# Altium integrated library Altium_WE-MAIA (rev24b).IntLib: 166 symbols (part 3 of 4)
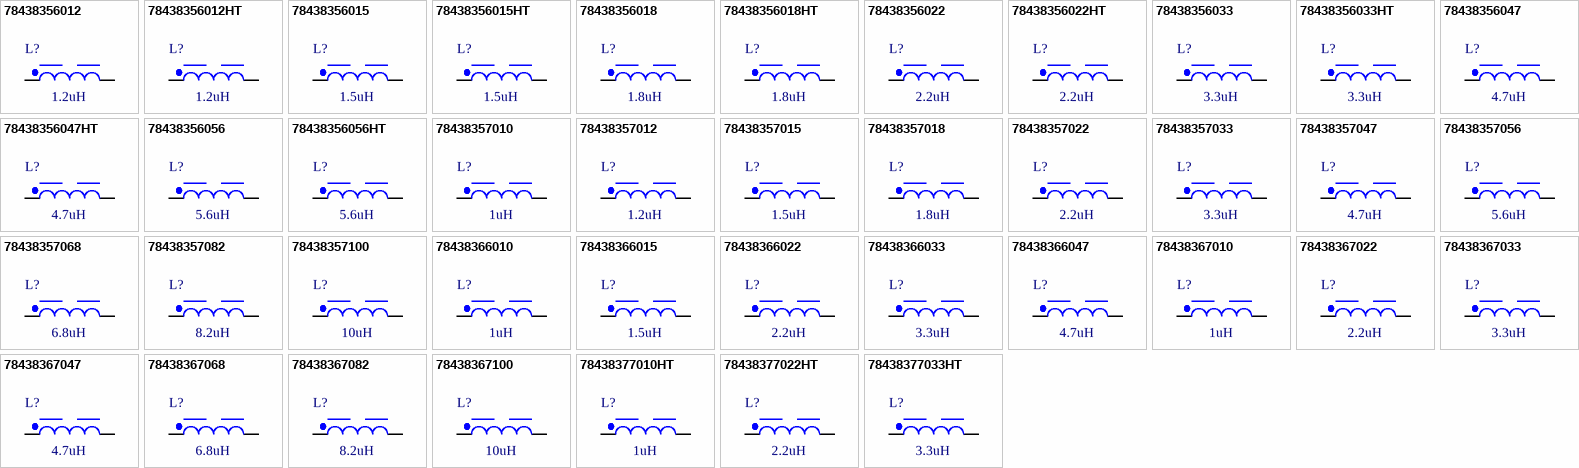
[diagram p6: symbols 78438356012 to 78438377033HT]

## 78438367010
designator L?, comment 1uH
WE-MAIA SMT Power Inductor, size 5030, 1uH, 11.85A, 11.5mOhm; Manufacturer Part Number: 78438367010; Manufacturer: Wurth Elektronik; Case/Size Code: 5030; Saturation Current @ 10%: 5.95A; Saturation Current @ 30%: 13.1A; Self Resonant Frequency: 44.5MHz; Category: Power Inductors; Match Code: WE-MAIA; ComponentLink1Description: Website Link; ComponentLink1URL: https://www.we-online.com/redexpert/article/78438367010?ad; ComponentLink2Description: Datasheet Link; ComponentLink2URL: https://www.we-online.com/redexpert/spec/78438367010?ad; Mount: Surface Mount; Operating Temperature Max: 125°C; Operating Temperature Min: -40°C; Packaging: Tape and Reel; Length: 5.4mm; Width: 5.4mm; Height: 3.1mm; Automotive: Yes; DC Resistance Max: 11.5mOhm; Inductance: 1uH; Rated Current: 11.85A
footprint WE-MAIA_5030
simulation model 5030_78438367010_1u
pins: 1, 2

## 78438367022
designator L?, comment 2.2uH
WE-MAIA SMT Power Inductor, size 5030, 2.2uH, 9.8A, 16.1mOhm; Manufacturer Part Number: 78438367022; Manufacturer: Wurth Elektronik; Case/Size Code: 5030; Saturation Current @ 10%: 4.55A; Saturation Current @ 30%: 10.2A; Self Resonant Frequency: 28MHz; Category: Power Inductors; Match Code: WE-MAIA; ComponentLink1Description: Website Link; ComponentLink1URL: https://www.we-online.com/redexpert/article/78438367022?ad; ComponentLink2Description: Datasheet Link; ComponentLink2URL: https://www.we-online.com/redexpert/spec/78438367022?ad; Mount: Surface Mount; Operating Temperature Max: 125°C; Operating Temperature Min: -40°C; Packaging: Tape and Reel; Length: 5.4mm; Width: 5.4mm; Height: 3.1mm; Automotive: Yes; DC Resistance Max: 16.1mOhm; Inductance: 2.2uH; Rated Current: 9.8A
footprint WE-MAIA_5030
simulation model 5030_78438367022_2.2u
pins: 1, 2

## 78438367033
designator L?, comment 3.3uH
WE-MAIA SMT Power Inductor, size 5030, 3.3uH, 8A, 23mOhm; Manufacturer Part Number: 78438367033; Manufacturer: Wurth Elektronik; Case/Size Code: 5030; Saturation Current @ 10%: 4.35A; Saturation Current @ 30%: 10A; Self Resonant Frequency: 22MHz; Category: Power Inductors; Match Code: WE-MAIA; ComponentLink1Description: Website Link; ComponentLink1URL: https://www.we-online.com/redexpert/article/78438367033?ad; ComponentLink2Description: Datasheet Link; ComponentLink2URL: https://www.we-online.com/redexpert/spec/78438367033?ad; Mount: Surface Mount; Operating Temperature Max: 125°C; Operating Temperature Min: -40°C; Packaging: Tape and Reel; Length: 5.4mm; Width: 5.4mm; Height: 3.1mm; Automotive: Yes; DC Resistance Max: 23mOhm; Inductance: 3.3uH; Rated Current: 8A
footprint WE-MAIA_5030
simulation model 5030_78438367033_3.3u
pins: 1, 2

## 78438367047
designator L?, comment 4.7uH
WE-MAIA SMT Power Inductor, size 5030, 4.7uH, 6.45A, 34.5mOhm; Manufacturer Part Number: 78438367047; Manufacturer: Wurth Elektronik; Case/Size Code: 5030; Saturation Current @ 10%: 3.35A; Saturation Current @ 30%: 6.5A; Self Resonant Frequency: 18.5MHz; Category: Power Inductors; Match Code: WE-MAIA; ComponentLink1Description: Website Link; ComponentLink1URL: https://www.we-online.com/redexpert/article/78438367047?ad; ComponentLink2Description: Datasheet Link; ComponentLink2URL: https://www.we-online.com/redexpert/spec/78438367047?ad; Mount: Surface Mount; Operating Temperature Max: 125°C; Operating Temperature Min: -40°C; Packaging: Tape and Reel; Length: 5.4mm; Width: 5.4mm; Height: 3.1mm; Automotive: Yes; DC Resistance Max: 34.5mOhm; Inductance: 4.7uH; Rated Current: 6.45A
footprint WE-MAIA_5030
simulation model 5030_78438367047_4.7u
pins: 1, 2

## 78438367068
designator L?, comment 6.8uH
WE-MAIA SMT Power Inductor, size 5030, 6.8uH, 5.3A, 48.3mOhm; Manufacturer Part Number: 78438367068; Manufacturer: Wurth Elektronik; Case/Size Code: 5030; Saturation Current @ 10%: 3.7A; Saturation Current @ 30%: 7.7A; Self Resonant Frequency: 15.5MHz; Category: Power Inductors; Match Code: WE-MAIA; ComponentLink1Description: Website Link; ComponentLink1URL: https://www.we-online.com/redexpert/article/78438367068?ad; ComponentLink2Description: Datasheet Link; ComponentLink2URL: https://www.we-online.com/redexpert/spec/78438367068?ad; Mount: Surface Mount; Operating Temperature Max: 125°C; Operating Temperature Min: -40°C; Packaging: Tape and Reel; Length: 5.4mm; Width: 5.4mm; Height: 3.1mm; Automotive: Yes; DC Resistance Max: 48.3mOhm; Inductance: 6.8uH; Rated Current: 5.3A
footprint WE-MAIA_5030
simulation model 5030_78438367068_6.8u
pins: 1, 2

## 78438367082
designator L?, comment 8.2uH
WE-MAIA SMT Power Inductor, size 5030, 8.2uH, 4.85A, 57.5mOhm; Manufacturer Part Number: 78438367082; Manufacturer: Wurth Elektronik; Case/Size Code: 5030; Saturation Current @ 10%: 3.25A; Saturation Current @ 30%: 6.6A; Self Resonant Frequency: 13MHz; Category: Power Inductors; Match Code: WE-MAIA; ComponentLink1Description: Website Link; ComponentLink1URL: https://www.we-online.com/redexpert/article/78438367082?ad; ComponentLink2Description: Datasheet Link; ComponentLink2URL: https://www.we-online.com/redexpert/spec/78438367082?ad; Mount: Surface Mount; Operating Temperature Max: 125°C; Operating Temperature Min: -40°C; Packaging: Tape and Reel; Length: 5.4mm; Width: 5.4mm; Height: 3.1mm; Automotive: Yes; DC Resistance Max: 57.5mOhm; Inductance: 8.2uH; Rated Current: 4.85A
footprint WE-MAIA_5030
simulation model 5030_78438367082_8.2u
pins: 1, 2

## 78438367100
designator L?, comment 10uH
WE-MAIA SMT Power Inductor, size 5030, 10uH, 4.3A, 70.2mOhm; Manufacturer Part Number: 78438367100; Manufacturer: Wurth Elektronik; Case/Size Code: 5030; Saturation Current @ 10%: 3.25A; Saturation Current @ 30%: 6.6A; Self Resonant Frequency: 13MHz; Category: Power Inductors; Match Code: WE-MAIA; ComponentLink1Description: Website Link; ComponentLink1URL: https://www.we-online.com/redexpert/article/78438367100?ad; ComponentLink2Description: Datasheet Link; ComponentLink2URL: https://www.we-online.com/redexpert/spec/78438367100?ad; Mount: Surface Mount; Operating Temperature Max: 125°C; Operating Temperature Min: -40°C; Packaging: Tape and Reel; Length: 5.4mm; Width: 5.4mm; Height: 3.1mm; Automotive: Yes; DC Resistance Max: 70.2mOhm; Inductance: 10uH; Rated Current: 4.3A
footprint WE-MAIA_5030
simulation model 5030_78438367100_10u
pins: 1, 2

## 78438377010HT
designator L?, comment 1uH
WE-MAIA SMT Power Inductor, size 6030HT, 1uH, 15.2A, 6.9mOhm; Manufacturer Part Number: 78438377010HT; Manufacturer: Wurth Elektronik; Saturation Current @ 10%: 8.7A; Saturation Current @ 30%: 18A; Self Resonant Frequency: 47MHz; Category: Power Inductors; Match Code: WE-MAIA; ComponentLink1Description: Website Link; ComponentLink1URL: https://www.we-online.com/redexpert/article/78438377010HT?ad; ComponentLink2Description: Datasheet Link; ComponentLink2URL: https://www.we-online.com/redexpert/spec/78438377010HT?ad; Mount: Surface Mount; Operating Temperature Max: 150°C; Operating Temperature Min: -55°C; Packaging: Tape and Reel; Case/Size Code: 6030HT; Length: 6.6mm; Width: 6.6mm; Height: 3.1mm; Automotive: Yes; DC Resistance Max: 6.9mOhm; Inductance: 1uH; Rated Current: 15.2A
footprint WE-MAIA_6030HT
simulation model 6030HT_78438377010HT_1u
pins: 1, 2

## 78438377022HT
designator L?, comment 2.2uH
WE-MAIA SMT Power Inductor, size 6030HT, 2.2uH, 11.4A, 13.7mOhm; Manufacturer Part Number: 78438377022HT; Manufacturer: Wurth Elektronik; Saturation Current @ 10%: 6.3A; Saturation Current @ 30%: 12.8A; Self Resonant Frequency: 28MHz; Category: Power Inductors; Match Code: WE-MAIA; ComponentLink1Description: Website Link; ComponentLink1URL: https://www.we-online.com/redexpert/article/78438377022HT?ad; ComponentLink2Description: Datasheet Link; ComponentLink2URL: https://www.we-online.com/redexpert/spec/78438377022HT?ad; Mount: Surface Mount; Operating Temperature Max: 150°C; Operating Temperature Min: -55°C; Packaging: Tape and Reel; Case/Size Code: 6030HT; Length: 6.6mm; Width: 6.6mm; Height: 3.1mm; Automotive: Yes; DC Resistance Max: 13.7mOhm; Inductance: 2.2uH; Rated Current: 11.4A
footprint WE-MAIA_6030HT
simulation model 6030HT_78438377022HT_2.2u
pins: 1, 2

## 78438377033HT
designator L?, comment 3.3uH
WE-MAIA SMT Power Inductor, size 6030HT, 3.3uH, 9.6A, 20.4mOhm; Manufacturer Part Number: 78438377033HT; Manufacturer: Wurth Elektronik; Saturation Current @ 10%: 5.2A; Saturation Current @ 30%: 11.2A; Self Resonant Frequency: 22MHz; Category: Power Inductors; Match Code: WE-MAIA; ComponentLink1Description: Website Link; ComponentLink1URL: https://www.we-online.com/redexpert/article/78438377033HT?ad; ComponentLink2Description: Datasheet Link; ComponentLink2URL: https://www.we-online.com/redexpert/spec/78438377033HT?ad; Mount: Surface Mount; Operating Temperature Max: 150°C; Operating Temperature Min: -55°C; Packaging: Tape and Reel; Case/Size Code: 6030HT; Length: 6.6mm; Width: 6.6mm; Height: 3.1mm; Automotive: Yes; DC Resistance Max: 20.4mOhm; Inductance: 3.3uH; Rated Current: 9.6A
footprint WE-MAIA_6030HT
simulation model 6030HT_78438377033HT_3.3u
pins: 1, 2

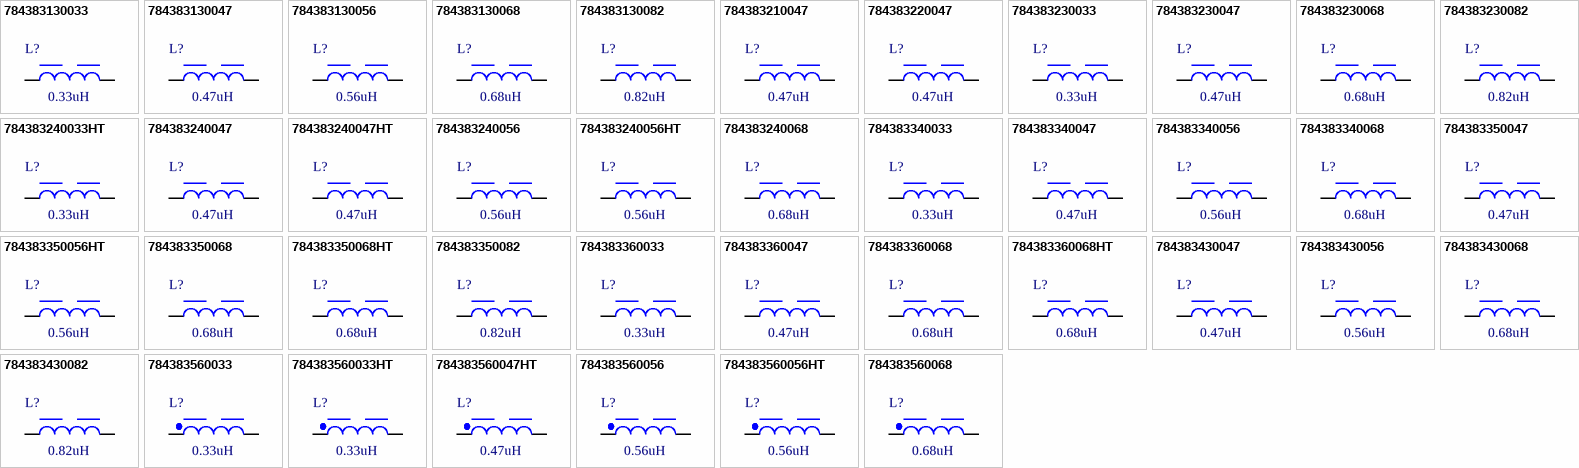
[diagram p3: symbols 784383130033 to 784383560068]

## 784383130033
designator L?, comment 0.33uH
WE-MAIA SMT Power Inductor, size 1610, 0.33uH, 3.25A, 84mOhm; Manufacturer Part Number: 784383130033; Manufacturer: Wurth Elektronik; Case/Size Code: 1610; Saturation Current @ 10%: 3.35A; Saturation Current @ 30%: 6.2A; Self Resonant Frequency: 215MHz; Category: Power Inductors; Match Code: WE-MAIA; ComponentLink1Description: Website Link; ComponentLink1URL: https://www.we-online.com/redexpert/article/784383130033?ad; ComponentLink2Description: Datasheet Link; ComponentLink2URL: https://www.we-online.com/redexpert/spec/784383130033?ad; Mount: Surface Mount; Operating Temperature Max: 125°C; Operating Temperature Min: -40°C; Packaging: Tape and Reel; Length: 1.6mm; Width: 1.6mm; Height: 1mm; Automotive: Yes; DC Resistance Max: 84mOhm; Inductance: 0.33uH; Rated Current: 3.25A
footprint WE-MAIA_1610
simulation model 1610_784383130033_0.33u
pins: 1, 2

## 784383130047
designator L?, comment 0.47uH
WE-MAIA SMT Power Inductor, size 1610, 0.47uH, 2.95A, 101mOhm; Manufacturer Part Number: 784383130047; Manufacturer: Wurth Elektronik; Case/Size Code: 1610; Saturation Current @ 10%: 3.05A; Saturation Current @ 30%: 5.6A; Self Resonant Frequency: 200MHz; Category: Power Inductors; Match Code: WE-MAIA; ComponentLink1Description: Website Link; ComponentLink1URL: https://www.we-online.com/redexpert/article/784383130047?ad; ComponentLink2Description: Datasheet Link; ComponentLink2URL: https://www.we-online.com/redexpert/spec/784383130047?ad; Mount: Surface Mount; Operating Temperature Max: 125°C; Operating Temperature Min: -40°C; Packaging: Tape and Reel; Length: 1.6mm; Width: 1.6mm; Height: 1mm; Automotive: Yes; DC Resistance Max: 101mOhm; Inductance: 0.47uH; Rated Current: 2.95A
footprint WE-MAIA_1610
simulation model 1610_784383130047_0.47u
pins: 1, 2

## 784383130056
designator L?, comment 0.56uH
WE-MAIA SMT Power Inductor, size 1610, 0.56uH, 2.7A, 113mOhm; Manufacturer Part Number: 784383130056; Manufacturer: Wurth Elektronik; Case/Size Code: 1610; Saturation Current @ 10%: 2.75A; Saturation Current @ 30%: 5.2A; Self Resonant Frequency: 150MHz; Category: Power Inductors; Match Code: WE-MAIA; ComponentLink1Description: Website Link; ComponentLink1URL: https://www.we-online.com/redexpert/article/784383130056?ad; ComponentLink2Description: Datasheet Link; ComponentLink2URL: https://www.we-online.com/redexpert/spec/784383130056?ad; Mount: Surface Mount; Operating Temperature Max: 125°C; Operating Temperature Min: -40°C; Packaging: Tape and Reel; Length: 1.6mm; Width: 1.6mm; Height: 1mm; Automotive: Yes; DC Resistance Max: 113mOhm; Inductance: 0.56uH; Rated Current: 2.7A
footprint WE-MAIA_1610
simulation model 1610_784383130056_0.56u
pins: 1, 2

## 784383130068
designator L?, comment 0.68uH
WE-MAIA SMT Power Inductor, size 1610, 0.68uH, 2.55A, 126mOhm; Manufacturer Part Number: 784383130068; Manufacturer: Wurth Elektronik; Case/Size Code: 1610; Saturation Current @ 30%: 4.8A; Self Resonant Frequency: 135MHz; Category: Power Inductors; Match Code: WE-MAIA; ComponentLink1Description: Website Link; ComponentLink1URL: https://www.we-online.com/redexpert/article/784383130068?ad; ComponentLink2Description: Datasheet Link; ComponentLink2URL: https://www.we-online.com/redexpert/spec/784383130068?ad; Mount: Surface Mount; Operating Temperature Max: 125°C; Operating Temperature Min: -40°C; Packaging: Tape and Reel; Length: 1.6mm; Width: 1.6mm; Height: 1mm; Automotive: Yes; DC Resistance Max: 126mOhm; Inductance: 0.68uH; Rated Current: 2.55A; Saturation Current @ 10%: 2.55A
footprint WE-MAIA_1610
simulation model 1610_784383130068_0.68u
pins: 1, 2

## 784383130082
designator L?, comment 0.82uH
WE-MAIA SMT Power Inductor, size 1610, 0.82uH, 2.35A, 144mOhm; Manufacturer Part Number: 784383130082; Manufacturer: Wurth Elektronik; Case/Size Code: 1610; Saturation Current @ 10%: 2.5A; Saturation Current @ 30%: 4.6A; Self Resonant Frequency: 115MHz; Category: Power Inductors; Match Code: WE-MAIA; ComponentLink1Description: Website Link; ComponentLink1URL: https://www.we-online.com/redexpert/article/784383130082?ad; ComponentLink2Description: Datasheet Link; ComponentLink2URL: https://www.we-online.com/redexpert/spec/784383130082?ad; Mount: Surface Mount; Operating Temperature Max: 125°C; Operating Temperature Min: -40°C; Packaging: Tape and Reel; Length: 1.6mm; Width: 1.6mm; Height: 1mm; Automotive: Yes; DC Resistance Max: 144mOhm; Inductance: 0.82uH; Rated Current: 2.35A
footprint WE-MAIA_1610
simulation model 1610_784383130082_0.82u
pins: 1, 2

## 784383210047
designator L?, comment 0.47uH
WE-MAIA SMT Power Inductor, size 2506, 0.47uH, 3.25A, 95mOhm; Manufacturer Part Number: 784383210047; Manufacturer: Wurth Elektronik; Case/Size Code: 2506; Saturation Current @ 10%: 2.55A; Saturation Current @ 30%: 4.65A; Self Resonant Frequency: 165MHz; Category: Power Inductors; Match Code: WE-MAIA; ComponentLink1Description: Website Link; ComponentLink1URL: https://www.we-online.com/redexpert/article/784383210047?ad; ComponentLink2Description: Datasheet Link; ComponentLink2URL: https://www.we-online.com/redexpert/spec/784383210047?ad; Mount: Surface Mount; Operating Temperature Max: 125°C; Operating Temperature Min: -40°C; Packaging: Tape and Reel; Length: 2.5mm; Width: 2mm; Height: 0.6mm; Automotive: Yes; DC Resistance Max: 95mOhm; Inductance: 0.47uH; Rated Current: 3.25A
footprint WE-MAIA_2506
simulation model 2506_784383210047_0.47u
pins: 1, 2

## 784383220047
designator L?, comment 0.47uH
WE-MAIA SMT Power Inductor, size 2508, 0.47uH, 3.35A, 87mOhm; Manufacturer Part Number: 784383220047; Manufacturer: Wurth Elektronik; Case/Size Code: 2508; Saturation Current @ 10%: 2.85A; Saturation Current @ 30%: 5.65A; Self Resonant Frequency: 160MHz; Category: Power Inductors; Match Code: WE-MAIA; ComponentLink1Description: Website Link; ComponentLink1URL: https://www.we-online.com/redexpert/article/784383220047?ad; ComponentLink2Description: Datasheet Link; ComponentLink2URL: https://www.we-online.com/redexpert/spec/784383220047?ad; Mount: Surface Mount; Operating Temperature Max: 125°C; Operating Temperature Min: -40°C; Packaging: Tape and Reel; Length: 2.5mm; Width: 2mm; Height: 0.8mm; Automotive: Yes; DC Resistance Max: 87mOhm; Inductance: 0.47uH; Rated Current: 3.35A
footprint WE-MAIA_2508
simulation model 2508_784383220047_0.47u
pins: 1, 2

## 784383230033
designator L?, comment 0.33uH
WE-MAIA SMT Power Inductor, size 2510, 0.33uH, 5.5A, 38mOhm; Manufacturer Part Number: 784383230033; Manufacturer: Wurth Elektronik; Case/Size Code: 2510; Saturation Current @ 10%: 4.25A; Saturation Current @ 30%: 8A; Self Resonant Frequency: 180MHz; Category: Power Inductors; Match Code: WE-MAIA; ComponentLink1Description: Website Link; ComponentLink1URL: https://www.we-online.com/redexpert/article/784383230033?ad; ComponentLink2Description: Datasheet Link; ComponentLink2URL: https://www.we-online.com/redexpert/spec/784383230033?ad; Mount: Surface Mount; Operating Temperature Max: 125°C; Operating Temperature Min: -40°C; Packaging: Tape and Reel; Length: 2.5mm; Width: 2mm; Height: 1mm; Automotive: Yes; DC Resistance Max: 38mOhm; Inductance: 0.33uH; Rated Current: 5.5A
footprint WE-MAIA_2510
simulation model 2510_784383230033_0.33u
pins: 1, 2

## 784383230047
designator L?, comment 0.47uH
WE-MAIA SMT Power Inductor, size 2510, 0.47uH, 4.8A, 48mOhm; Manufacturer Part Number: 784383230047; Manufacturer: Wurth Elektronik; Case/Size Code: 2510; Saturation Current @ 10%: 3.6A; Saturation Current @ 30%: 6.9A; Self Resonant Frequency: 170MHz; Category: Power Inductors; Match Code: WE-MAIA; ComponentLink1Description: Website Link; ComponentLink1URL: https://www.we-online.com/redexpert/article/784383230047?ad; ComponentLink2Description: Datasheet Link; ComponentLink2URL: https://www.we-online.com/redexpert/spec/784383230047?ad; Mount: Surface Mount; Operating Temperature Max: 125°C; Operating Temperature Min: -40°C; Packaging: Tape and Reel; Length: 2.5mm; Width: 2mm; Height: 1mm; Automotive: Yes; DC Resistance Max: 48mOhm; Inductance: 0.47uH; Rated Current: 4.8A
footprint WE-MAIA_2510
simulation model 2510_784383230047_0.47u
pins: 1, 2

## 784383230068
designator L?, comment 0.68uH
WE-MAIA SMT Power Inductor, size 2510, 0.68uH, 4.25A, 60mOhm; Manufacturer Part Number: 784383230068; Manufacturer: Wurth Elektronik; Case/Size Code: 2510; Saturation Current @ 10%: 3.1A; Saturation Current @ 30%: 6.1A; Self Resonant Frequency: 135MHz; Category: Power Inductors; Match Code: WE-MAIA; ComponentLink1Description: Website Link; ComponentLink1URL: https://www.we-online.com/redexpert/article/784383230068?ad; ComponentLink2Description: Datasheet Link; ComponentLink2URL: https://www.we-online.com/redexpert/spec/784383230068?ad; Mount: Surface Mount; Operating Temperature Max: 125°C; Operating Temperature Min: -40°C; Packaging: Tape and Reel; Length: 2.5mm; Width: 2mm; Height: 1mm; Automotive: Yes; DC Resistance Max: 60mOhm; Inductance: 0.68uH; Rated Current: 4.25A
footprint WE-MAIA_2510
simulation model 2510_784383230068_0.68u
pins: 1, 2

## 784383230082
designator L?, comment 0.82uH
WE-MAIA SMT Power Inductor, size 2510, 0.82uH, 3.9A, 69mOhm; Manufacturer Part Number: 784383230082; Manufacturer: Wurth Elektronik; Case/Size Code: 2510; Saturation Current @ 10%: 2.7A; Saturation Current @ 30%: 5.45A; Self Resonant Frequency: 105MHz; Category: Power Inductors; Match Code: WE-MAIA; ComponentLink1Description: Website Link; ComponentLink1URL: https://www.we-online.com/redexpert/article/784383230082?ad; ComponentLink2Description: Datasheet Link; ComponentLink2URL: https://www.we-online.com/redexpert/spec/784383230082?ad; Mount: Surface Mount; Operating Temperature Max: 125°C; Operating Temperature Min: -40°C; Packaging: Tape and Reel; Length: 2.5mm; Width: 2mm; Height: 1mm; Automotive: Yes; DC Resistance Max: 69mOhm; Inductance: 0.82uH; Rated Current: 3.9A
footprint WE-MAIA_2510
simulation model 2510_784383230082_0.82u
pins: 1, 2

## 784383240033HT
designator L?, comment 0.33uH
WE-MAIA SMT Power Inductor, size 2512HT, 0.33uH, 6.2A, 26.7mOhm; Manufacturer Part Number: 784383240033HT; Manufacturer: Wurth Elektronik; Saturation Current @ 10%: 4.1A; Saturation Current @ 30%: 8.6A; Self Resonant Frequency: 174MHz; Category: Power Inductors; Match Code: WE-MAIA; ComponentLink1Description: Website Link; ComponentLink1URL: https://www.we-online.com/redexpert/article/784383240033HT?ad; ComponentLink2Description: Datasheet Link; ComponentLink2URL: https://www.we-online.com/redexpert/spec/784383240033HT?ad; Mount: Surface Mount; Operating Temperature Max: 150°C; Operating Temperature Min: -55°C; Packaging: Tape and Reel; Case/Size Code: 2512HT; Length: 2.5mm; Width: 2mm; Height: 1.2mm; Automotive: Yes; DC Resistance Max: 26.7mOhm; Inductance: 0.33uH; Rated Current: 6.2A
footprint WE-MAIA_2512HT
simulation model 2512HT_784383240033HT_0.33u
pins: 1, 2

## 784383240047
designator L?, comment 0.47uH
WE-MAIA SMT Power Inductor, size 2512, 0.47uH, 5.35A, 40mOhm; Manufacturer Part Number: 784383240047; Manufacturer: Wurth Elektronik; Case/Size Code: 2512; Saturation Current @ 10%: 4.15A; Saturation Current @ 30%: 8A; Self Resonant Frequency: 145MHz; Category: Power Inductors; Match Code: WE-MAIA; ComponentLink1Description: Website Link; ComponentLink1URL: https://www.we-online.com/redexpert/article/784383240047?ad; ComponentLink2Description: Datasheet Link; ComponentLink2URL: https://www.we-online.com/redexpert/spec/784383240047?ad; Mount: Surface Mount; Operating Temperature Max: 125°C; Operating Temperature Min: -40°C; Packaging: Tape and Reel; Length: 2.5mm; Width: 2mm; Height: 1.2mm; Automotive: Yes; DC Resistance Max: 40mOhm; Inductance: 0.47uH; Rated Current: 5.35A
footprint WE-MAIA_2512
simulation model 2512_784383240047_0.47u
pins: 1, 2

## 784383240047HT
designator L?, comment 0.47uH
WE-MAIA SMT Power Inductor, size 2512HT, 0.47uH, 5.3A, 34.7mOhm; Manufacturer Part Number: 784383240047HT; Manufacturer: Wurth Elektronik; Saturation Current @ 10%: 3.6A; Saturation Current @ 30%: 7.5A; Self Resonant Frequency: 131MHz; Category: Power Inductors; Match Code: WE-MAIA; ComponentLink1Description: Website Link; ComponentLink1URL: https://www.we-online.com/redexpert/article/784383240047HT?ad; ComponentLink2Description: Datasheet Link; ComponentLink2URL: https://www.we-online.com/redexpert/spec/784383240047HT?ad; Mount: Surface Mount; Operating Temperature Max: 150°C; Operating Temperature Min: -55°C; Packaging: Tape and Reel; Case/Size Code: 2512HT; Length: 2.5mm; Width: 2mm; Height: 1.2mm; Automotive: Yes; DC Resistance Max: 34.7mOhm; Inductance: 0.47uH; Rated Current: 5.3A
footprint WE-MAIA_2512HT
simulation model 2512HT_784383240047HT_0.47u
pins: 1, 2

## 784383240056
designator L?, comment 0.56uH
WE-MAIA SMT Power Inductor, size 2512, 0.56uH, 4.75A, 49mOhm; Manufacturer Part Number: 784383240056; Manufacturer: Wurth Elektronik; Case/Size Code: 2512; Saturation Current @ 10%: 4.25A; Saturation Current @ 30%: 7.9A; Self Resonant Frequency: 120MHz; Category: Power Inductors; Match Code: WE-MAIA; ComponentLink1Description: Website Link; ComponentLink1URL: https://www.we-online.com/redexpert/article/784383240056?ad; ComponentLink2Description: Datasheet Link; ComponentLink2URL: https://www.we-online.com/redexpert/spec/784383240056?ad; Mount: Surface Mount; Operating Temperature Max: 125°C; Operating Temperature Min: -40°C; Packaging: Tape and Reel; Length: 2.5mm; Width: 2mm; Height: 1.2mm; Automotive: Yes; DC Resistance Max: 49mOhm; Inductance: 0.56uH; Rated Current: 4.75A
footprint WE-MAIA_2512
simulation model 2512_784383240056_0.56u
pins: 1, 2

## 784383240056HT
designator L?, comment 0.56uH
WE-MAIA SMT Power Inductor, size 2512HT, 0.56uH, 4.7A, 44.1mOhm; Manufacturer Part Number: 784383240056HT; Manufacturer: Wurth Elektronik; Saturation Current @ 10%: 3.2A; Saturation Current @ 30%: 6.7A; Self Resonant Frequency: 102MHz; Category: Power Inductors; Match Code: WE-MAIA; ComponentLink1Description: Website Link; ComponentLink1URL: https://www.we-online.com/redexpert/article/784383240056HT?ad; ComponentLink2Description: Datasheet Link; ComponentLink2URL: https://www.we-online.com/redexpert/spec/784383240056HT?ad; Mount: Surface Mount; Operating Temperature Max: 150°C; Operating Temperature Min: -55°C; Packaging: Tape and Reel; Case/Size Code: 2512HT; Length: 2.5mm; Width: 2mm; Height: 1.2mm; Automotive: Yes; DC Resistance Max: 44.1mOhm; Inductance: 0.56uH; Rated Current: 4.7A
footprint WE-MAIA_2512HT
simulation model 2512HT_784383240056HT_0.56u
pins: 1, 2

## 784383240068
designator L?, comment 0.68uH
WE-MAIA SMT Power Inductor, size 2512, 0.68uH, 4.25A, 59mOhm; Manufacturer Part Number: 784383240068; Manufacturer: Wurth Elektronik; Case/Size Code: 2512; Saturation Current @ 10%: 3.8A; Saturation Current @ 30%: 7.4A; Self Resonant Frequency: 102MHz; Category: Power Inductors; Match Code: WE-MAIA; ComponentLink1Description: Website Link; ComponentLink1URL: https://www.we-online.com/redexpert/article/784383240068?ad; ComponentLink2Description: Datasheet Link; ComponentLink2URL: https://www.we-online.com/redexpert/spec/784383240068?ad; Mount: Surface Mount; Operating Temperature Max: 125°C; Operating Temperature Min: -40°C; Packaging: Tape and Reel; Length: 2.5mm; Width: 2mm; Height: 1.2mm; Automotive: Yes; DC Resistance Max: 59mOhm; Inductance: 0.68uH; Rated Current: 4.25A
footprint WE-MAIA_2512
simulation model 2512_784383240068_0.68u
pins: 1, 2

## 784383340033
designator L?, comment 0.33uH
WE-MAIA SMT Power Inductor, size 3012, 0.33uH, 7.4A, 22.8mOhm; Manufacturer Part Number: 784383340033; Manufacturer: Wurth Elektronik; Case/Size Code: 3012; Saturation Current @ 10%: 8.1A; Saturation Current @ 30%: 13.3A; Self Resonant Frequency: 140MHz; Category: Power Inductors; Match Code: WE-MAIA; ComponentLink1Description: Website Link; ComponentLink1URL: https://www.we-online.com/redexpert/article/784383340033?ad; ComponentLink2Description: Datasheet Link; ComponentLink2URL: https://www.we-online.com/redexpert/spec/784383340033?ad; Mount: Surface Mount; Operating Temperature Max: 125°C; Operating Temperature Min: -40°C; Packaging: Tape and Reel; Length: 3mm; Width: 3mm; Height: 1.2mm; Automotive: Yes; DC Resistance Max: 22.8mOhm; Inductance: 0.33uH; Rated Current: 7.4A
footprint WE-MAIA_3012
simulation model 3012_784383340033_0.33u
pins: 1, 2

## 784383340047
designator L?, comment 0.47uH
WE-MAIA SMT Power Inductor, size 3012, 0.47uH, 6.8A, 26.4mOhm; Manufacturer Part Number: 784383340047; Manufacturer: Wurth Elektronik; Case/Size Code: 3012; Saturation Current @ 10%: 5.95A; Saturation Current @ 30%: 12.3A; Self Resonant Frequency: 110MHz; Category: Power Inductors; Match Code: WE-MAIA; ComponentLink1Description: Website Link; ComponentLink1URL: https://www.we-online.com/redexpert/article/784383340047?ad; ComponentLink2Description: Datasheet Link; ComponentLink2URL: https://www.we-online.com/redexpert/spec/784383340047?ad; Mount: Surface Mount; Operating Temperature Max: 125°C; Operating Temperature Min: -40°C; Packaging: Tape and Reel; Length: 3mm; Width: 3mm; Height: 1.2mm; Automotive: Yes; DC Resistance Max: 26.4mOhm; Inductance: 0.47uH; Rated Current: 6.8A
footprint WE-MAIA_3012
simulation model 3012_784383340047_0.47u
pins: 1, 2

## 784383340056
designator L?, comment 0.56uH
WE-MAIA SMT Power Inductor, size 3012, 0.56uH, 5.8A, 34.8mOhm; Manufacturer Part Number: 784383340056; Manufacturer: Wurth Elektronik; Case/Size Code: 3012; Saturation Current @ 10%: 5.65A; Saturation Current @ 30%: 11.1A; Self Resonant Frequency: 108MHz; Category: Power Inductors; Match Code: WE-MAIA; ComponentLink1Description: Website Link; ComponentLink1URL: https://www.we-online.com/redexpert/article/784383340056?ad; ComponentLink2Description: Datasheet Link; ComponentLink2URL: https://www.we-online.com/redexpert/spec/784383340056?ad; Mount: Surface Mount; Operating Temperature Max: 125°C; Operating Temperature Min: -40°C; Packaging: Tape and Reel; Length: 3mm; Width: 3mm; Height: 1.2mm; Automotive: Yes; DC Resistance Max: 34.8mOhm; Inductance: 0.56uH; Rated Current: 5.8A
footprint WE-MAIA_3012
simulation model 3012_784383340056_0.56u
pins: 1, 2

## 784383340068
designator L?, comment 0.68uH
WE-MAIA SMT Power Inductor, size 3012, 0.68uH, 5.15A, 43.2mOhm; Manufacturer Part Number: 784383340068; Manufacturer: Wurth Elektronik; Case/Size Code: 3012; Saturation Current @ 10%: 4.95A; Saturation Current @ 30%: 10A; Self Resonant Frequency: 100MHz; Category: Power Inductors; Match Code: WE-MAIA; ComponentLink1Description: Website Link; ComponentLink1URL: https://www.we-online.com/redexpert/article/784383340068?ad; ComponentLink2Description: Datasheet Link; ComponentLink2URL: https://www.we-online.com/redexpert/spec/784383340068?ad; Mount: Surface Mount; Operating Temperature Max: 125°C; Operating Temperature Min: -40°C; Packaging: Tape and Reel; Length: 3mm; Width: 3mm; Height: 1.2mm; Automotive: Yes; DC Resistance Max: 43.2mOhm; Inductance: 0.68uH; Rated Current: 5.15A
footprint WE-MAIA_3012
simulation model 3012_784383340068_0.68u
pins: 1, 2

## 784383350047
designator L?, comment 0.47uH
WE-MAIA SMT Power Inductor, size 3015, 0.47uH, 7.1A, 23mOhm; Manufacturer Part Number: 784383350047; Manufacturer: Wurth Elektronik; Case/Size Code: 3015; Saturation Current @ 10%: 4.35A; Saturation Current @ 30%: 7.4A; Self Resonant Frequency: 105MHz; Category: Power Inductors; Match Code: WE-MAIA; ComponentLink1Description: Website Link; ComponentLink1URL: https://www.we-online.com/redexpert/article/784383350047?ad; ComponentLink2Description: Datasheet Link; ComponentLink2URL: https://www.we-online.com/redexpert/spec/784383350047?ad; Mount: Surface Mount; Operating Temperature Max: 125°C; Operating Temperature Min: -40°C; Packaging: Tape and Reel; Length: 3mm; Width: 3mm; Height: 1.5mm; Automotive: Yes; DC Resistance Max: 23mOhm; Inductance: 0.47uH; Rated Current: 7.1A
footprint WE-MAIA_3015
simulation model 3015_784383350047_0.47u
pins: 1, 2

## 784383350056HT
designator L?, comment 0.56uH
WE-MAIA SMT Power Inductor, size 3015HT, 0.56uH, 7.3A, 22.2mOhm; Manufacturer Part Number: 784383350056HT; Manufacturer: Wurth Elektronik; Saturation Current @ 10%: 4A; Saturation Current @ 30%: 7.8A; Self Resonant Frequency: 93MHz; Category: Power Inductors; Match Code: WE-MAIA; ComponentLink1Description: Website Link; ComponentLink1URL: https://www.we-online.com/redexpert/article/784383350056HT?ad; ComponentLink2Description: Datasheet Link; ComponentLink2URL: https://www.we-online.com/redexpert/spec/784383350056HT?ad; Mount: Surface Mount; Operating Temperature Max: 150°C; Operating Temperature Min: -55°C; Packaging: Tape and Reel; Case/Size Code: 3015HT; Length: 3mm; Width: 3mm; Height: 1.5mm; Automotive: Yes; DC Resistance Max: 22.2mOhm; Inductance: 0.56uH; Rated Current: 7.3A
footprint WE-MAIA_3015HT
simulation model 3015HT_784383350056HT_0.56u
pins: 1, 2

## 784383350068
designator L?, comment 0.68uH
WE-MAIA SMT Power Inductor, size 3015, 0.68uH, 6.3A, 30mOhm; Manufacturer Part Number: 784383350068; Manufacturer: Wurth Elektronik; Case/Size Code: 3015; Saturation Current @ 10%: 5.8A; Saturation Current @ 30%: 9.7A; Self Resonant Frequency: 100MHz; Category: Power Inductors; Match Code: WE-MAIA; ComponentLink1Description: Website Link; ComponentLink1URL: https://www.we-online.com/redexpert/article/784383350068?ad; ComponentLink2Description: Datasheet Link; ComponentLink2URL: https://www.we-online.com/redexpert/spec/784383350068?ad; Mount: Surface Mount; Operating Temperature Max: 125°C; Operating Temperature Min: -40°C; Packaging: Tape and Reel; Length: 3mm; Width: 3mm; Height: 1.5mm; Automotive: Yes; DC Resistance Max: 30mOhm; Inductance: 0.68uH; Rated Current: 6.3A
footprint WE-MAIA_3015
simulation model 3015_784383350068_0.68u
pins: 1, 2

## 784383350068HT
designator L?, comment 0.68uH
WE-MAIA SMT Power Inductor, size 3015HT, 0.68uH, 6.8A, 25.5mOhm; Manufacturer Part Number: 784383350068HT; Manufacturer: Wurth Elektronik; Saturation Current @ 10%: 3.6A; Saturation Current @ 30%: 7.4A; Self Resonant Frequency: 78MHz; Category: Power Inductors; Match Code: WE-MAIA; ComponentLink1Description: Website Link; ComponentLink1URL: https://www.we-online.com/redexpert/article/784383350068HT?ad; ComponentLink2Description: Datasheet Link; ComponentLink2URL: https://www.we-online.com/redexpert/spec/784383350068HT?ad; Mount: Surface Mount; Operating Temperature Max: 150°C; Operating Temperature Min: -55°C; Packaging: Tape and Reel; Case/Size Code: 3015HT; Length: 3mm; Width: 3mm; Height: 1.5mm; Automotive: Yes; DC Resistance Max: 25.5mOhm; Inductance: 0.68uH; Rated Current: 6.8A
footprint WE-MAIA_3015HT
simulation model 3015HT_784383350068HT_0.68u
pins: 1, 2

## 784383350082
designator L?, comment 0.82uH
WE-MAIA SMT Power Inductor, size 3015, 0.82uH, 5.7A, 35mOhm; Manufacturer Part Number: 784383350082; Manufacturer: Wurth Elektronik; Case/Size Code: 3015; Saturation Current @ 10%: 4.95A; Saturation Current @ 30%: 9A; Self Resonant Frequency: 85MHz; Category: Power Inductors; Match Code: WE-MAIA; ComponentLink1Description: Website Link; ComponentLink1URL: https://www.we-online.com/redexpert/article/784383350082?ad; ComponentLink2Description: Datasheet Link; ComponentLink2URL: https://www.we-online.com/redexpert/spec/784383350082?ad; Mount: Surface Mount; Operating Temperature Max: 125°C; Operating Temperature Min: -40°C; Packaging: Tape and Reel; Length: 3mm; Width: 3mm; Height: 1.5mm; Automotive: Yes; DC Resistance Max: 35mOhm; Inductance: 0.82uH; Rated Current: 5.7A
footprint WE-MAIA_3015
simulation model 3015_784383350082_0.82u
pins: 1, 2

## 784383360033
designator L?, comment 0.33uH
WE-MAIA SMT Power Inductor, size 3020, 0.33uH, 8.7A, 17mOhm; Manufacturer Part Number: 784383360033; Manufacturer: Wurth Elektronik; Case/Size Code: 3020; Saturation Current @ 10%: 5.45A; Saturation Current @ 30%: 10.5A; Self Resonant Frequency: 140MHz; Category: Power Inductors; Match Code: WE-MAIA; ComponentLink1Description: Website Link; ComponentLink1URL: https://www.we-online.com/redexpert/article/784383360033?ad; ComponentLink2Description: Datasheet Link; ComponentLink2URL: https://www.we-online.com/redexpert/spec/784383360033?ad; Mount: Surface Mount; Operating Temperature Max: 125°C; Operating Temperature Min: -40°C; Packaging: Tape and Reel; Length: 3mm; Width: 3mm; Height: 2mm; Automotive: Yes; DC Resistance Max: 17mOhm; Inductance: 0.33uH; Rated Current: 8.7A
footprint WE-MAIA_3020
simulation model 3020_784383360033_0.33u
pins: 1, 2

## 784383360047
designator L?, comment 0.47uH
WE-MAIA SMT Power Inductor, size 3020, 0.47uH, 7.55A, 22mOhm; Manufacturer Part Number: 784383360047; Manufacturer: Wurth Elektronik; Case/Size Code: 3020; Saturation Current @ 10%: 5.4A; Saturation Current @ 30%: 9.8A; Self Resonant Frequency: 99MHz; Category: Power Inductors; Match Code: WE-MAIA; ComponentLink1Description: Website Link; ComponentLink1URL: https://www.we-online.com/redexpert/article/784383360047?ad; ComponentLink2Description: Datasheet Link; ComponentLink2URL: https://www.we-online.com/redexpert/spec/784383360047?ad; Mount: Surface Mount; Operating Temperature Max: 125°C; Operating Temperature Min: -40°C; Packaging: Tape and Reel; Length: 3mm; Width: 3mm; Height: 2mm; Automotive: Yes; DC Resistance Max: 22mOhm; Inductance: 0.47uH; Rated Current: 7.55A
footprint WE-MAIA_3020
simulation model 3020_784383360047_0.47u
pins: 1, 2

## 784383360068
designator L?, comment 0.68uH
WE-MAIA SMT Power Inductor, size 3020, 0.68uH, 6.75A, 27mOhm; Manufacturer Part Number: 784383360068; Manufacturer: Wurth Elektronik; Case/Size Code: 3020; Saturation Current @ 10%: 4.1A; Saturation Current @ 30%: 8.1A; Self Resonant Frequency: 85MHz; Category: Power Inductors; Match Code: WE-MAIA; ComponentLink1Description: Website Link; ComponentLink1URL: https://www.we-online.com/redexpert/article/784383360068?ad; ComponentLink2Description: Datasheet Link; ComponentLink2URL: https://www.we-online.com/redexpert/spec/784383360068?ad; Mount: Surface Mount; Operating Temperature Max: 125°C; Operating Temperature Min: -40°C; Packaging: Tape and Reel; Length: 3mm; Width: 3mm; Height: 2mm; Automotive: Yes; DC Resistance Max: 27mOhm; Inductance: 0.68uH; Rated Current: 6.75A
footprint WE-MAIA_3020
simulation model 3020_784383360068_0.68u
pins: 1, 2

## 784383360068HT
designator L?, comment 0.68uH
WE-MAIA SMT Power Inductor, size 3020HT, 0.68uH, 6.4A, 28.1mOhm; Manufacturer Part Number: 784383360068HT; Manufacturer: Wurth Elektronik; Saturation Current @ 10%: 2.8A; Saturation Current @ 30%: 6.7A; Self Resonant Frequency: 85MHz; Category: Power Inductors; Match Code: WE-MAIA; ComponentLink1Description: Website Link; ComponentLink1URL: https://www.we-online.com/redexpert/article/784383360068HT?ad; ComponentLink2Description: Datasheet Link; ComponentLink2URL: https://www.we-online.com/redexpert/spec/784383360068HT?ad; Mount: Surface Mount; Operating Temperature Max: 150°C; Operating Temperature Min: -55°C; Packaging: Tape and Reel; Case/Size Code: 3020HT; Length: 3mm; Width: 3mm; Height: 2mm; Automotive: Yes; DC Resistance Max: 28.1mOhm; Inductance: 0.68uH; Rated Current: 6.4A
footprint WE-MAIA_3020HT
simulation model 3020HT_784383360068HT_0.68u
pins: 1, 2

## 784383430047
designator L?, comment 0.47uH
WE-MAIA SMT Power Inductor, size 2010, 0.47uH, 3.9A, 63mOhm; Manufacturer Part Number: 784383430047; Manufacturer: Wurth Elektronik; Case/Size Code: 2010; Saturation Current @ 10%: 3.55A; Saturation Current @ 30%: 6.5A; Self Resonant Frequency: 175MHz; Category: Power Inductors; Match Code: WE-MAIA; ComponentLink1Description: Website Link; ComponentLink1URL: https://www.we-online.com/redexpert/article/784383430047?ad; ComponentLink2Description: Datasheet Link; ComponentLink2URL: https://www.we-online.com/redexpert/spec/784383430047?ad; Mount: Surface Mount; Operating Temperature Max: 125°C; Operating Temperature Min: -40°C; Packaging: Tape and Reel; Length: 2mm; Width: 1.6mm; Height: 1mm; Automotive: Yes; DC Resistance Max: 63mOhm; Inductance: 0.47uH; Rated Current: 3.9A
footprint WE-MAIA_2010
simulation model 2010_784383430047_0.47u
pins: 1, 2

## 784383430056
designator L?, comment 0.56uH
WE-MAIA SMT Power Inductor, size 2010, 0.56uH, 3.6A, 73mOhm; Manufacturer Part Number: 784383430056; Manufacturer: Wurth Elektronik; Case/Size Code: 2010; Saturation Current @ 10%: 3.3A; Saturation Current @ 30%: 6.2A; Self Resonant Frequency: 135MHz; Category: Power Inductors; Match Code: WE-MAIA; ComponentLink1Description: Website Link; ComponentLink1URL: https://www.we-online.com/redexpert/article/784383430056?ad; ComponentLink2Description: Datasheet Link; ComponentLink2URL: https://www.we-online.com/redexpert/spec/784383430056?ad; Mount: Surface Mount; Operating Temperature Max: 125°C; Operating Temperature Min: -40°C; Packaging: Tape and Reel; Length: 2mm; Width: 1.6mm; Height: 1mm; Automotive: Yes; DC Resistance Max: 73mOhm; Inductance: 0.56uH; Rated Current: 3.6A
footprint WE-MAIA_2010
simulation model 2010_784383430056_0.56u
pins: 1, 2

## 784383430068
designator L?, comment 0.68uH
WE-MAIA SMT Power Inductor, size 2010, 0.68uH, 3.3A, 84mOhm; Manufacturer Part Number: 784383430068; Manufacturer: Wurth Elektronik; Case/Size Code: 2010; Saturation Current @ 10%: 3.15A; Saturation Current @ 30%: 5.9A; Self Resonant Frequency: 130MHz; Category: Power Inductors; Match Code: WE-MAIA; ComponentLink1Description: Website Link; ComponentLink1URL: https://www.we-online.com/redexpert/article/784383430068?ad; ComponentLink2Description: Datasheet Link; ComponentLink2URL: https://www.we-online.com/redexpert/spec/784383430068?ad; Mount: Surface Mount; Operating Temperature Max: 125°C; Operating Temperature Min: -40°C; Packaging: Tape and Reel; Length: 2mm; Width: 1.6mm; Height: 1mm; Automotive: Yes; DC Resistance Max: 84mOhm; Inductance: 0.68uH; Rated Current: 3.3A
footprint WE-MAIA_2010
simulation model 2010_784383430068_0.68u
pins: 1, 2

## 784383430082
designator L?, comment 0.82uH
WE-MAIA SMT Power Inductor, size 2010, 0.82uH, 3.15A, 92mOhm; Manufacturer Part Number: 784383430082; Manufacturer: Wurth Elektronik; Case/Size Code: 2010; Saturation Current @ 10%: 2.8A; Saturation Current @ 30%: 5.35A; Self Resonant Frequency: 125MHz; Category: Power Inductors; Match Code: WE-MAIA; ComponentLink1Description: Website Link; ComponentLink1URL: https://www.we-online.com/redexpert/article/784383430082?ad; ComponentLink2Description: Datasheet Link; ComponentLink2URL: https://www.we-online.com/redexpert/spec/784383430082?ad; Mount: Surface Mount; Operating Temperature Max: 125°C; Operating Temperature Min: -40°C; Packaging: Tape and Reel; Length: 2mm; Width: 1.6mm; Height: 1mm; Automotive: Yes; DC Resistance Max: 92mOhm; Inductance: 0.82uH; Rated Current: 3.15A
footprint WE-MAIA_2010
simulation model 2010_784383430082_0.82u
pins: 1, 2

## 784383560033
designator L?, comment 0.33uH
WE-MAIA SMT Power Inductor, size 4020, 0.33uH, 14.95A, 7.2mOhm; Manufacturer Part Number: 784383560033; Manufacturer: Wurth Elektronik; Case/Size Code: 4020; Saturation Current @ 10%: 7.95A; Saturation Current @ 30%: 16.7A; Self Resonant Frequency: 115MHz; Category: Power Inductors; Match Code: WE-MAIA; ComponentLink1Description: Website Link; ComponentLink1URL: https://www.we-online.com/redexpert/article/784383560033?ad; ComponentLink2Description: Datasheet Link; ComponentLink2URL: https://www.we-online.com/redexpert/spec/784383560033?ad; Mount: Surface Mount; Operating Temperature Max: 125°C; Operating Temperature Min: -40°C; Packaging: Tape and Reel; Length: 4.1mm; Width: 4.1mm; Height: 2.1mm; Automotive: Yes; DC Resistance Max: 7.2mOhm; Inductance: 0.33uH; Rated Current: 14.95A
footprint WE-MAIA_4020
simulation model 4020_784383560033_0.33u
pins: 1, 2

## 784383560033HT
designator L?, comment 0.33uH
WE-MAIA SMT Power Inductor, size 4020HT, 0.33uH, 13.3A, 7.5mOhm; Manufacturer Part Number: 784383560033HT; Manufacturer: Wurth Elektronik; Saturation Current @ 10%: 7.25A; Saturation Current @ 30%: 14.8A; Self Resonant Frequency: 98MHz; Category: Power Inductors; Match Code: WE-MAIA; ComponentLink1Description: Website Link; ComponentLink1URL: https://www.we-online.com/redexpert/article/784383560033HT?ad; ComponentLink2Description: Datasheet Link; ComponentLink2URL: https://www.we-online.com/redexpert/spec/784383560033HT?ad; Mount: Surface Mount; Operating Temperature Max: 150°C; Operating Temperature Min: -55°C; Packaging: Tape and Reel; Case/Size Code: 4020HT; Length: 4mm; Width: 4mm; Height: 2.4mm; Automotive: Yes; DC Resistance Max: 7.5mOhm; Inductance: 0.33uH; Rated Current: 13.3A
footprint WE-MAIA_4020HT
simulation model 4020HT_784383560033HT_0.33u
pins: 1, 2

## 784383560047HT
designator L?, comment 0.47uH
WE-MAIA SMT Power Inductor, size 4020HT, 0.47uH, 12.7A, 8.1mOhm; Manufacturer Part Number: 784383560047HT; Manufacturer: Wurth Elektronik; Saturation Current @ 10%: 6.45A; Saturation Current @ 30%: 13A; Self Resonant Frequency: 83MHz; Category: Power Inductors; Match Code: WE-MAIA; ComponentLink1Description: Website Link; ComponentLink1URL: https://www.we-online.com/redexpert/article/784383560047HT?ad; ComponentLink2Description: Datasheet Link; ComponentLink2URL: https://www.we-online.com/redexpert/spec/784383560047HT?ad; Mount: Surface Mount; Operating Temperature Max: 150°C; Operating Temperature Min: -55°C; Packaging: Tape and Reel; Case/Size Code: 4020HT; Length: 4mm; Width: 4mm; Height: 2.4mm; Automotive: Yes; DC Resistance Max: 8.1mOhm; Inductance: 0.47uH; Rated Current: 12.7A
footprint WE-MAIA_4020HT
simulation model 4020HT_784383560047HT_0.47u
pins: 1, 2

## 784383560056
designator L?, comment 0.56uH
WE-MAIA SMT Power Inductor, size 4020, 0.56uH, 13.65A, 8.4mOhm; Manufacturer Part Number: 784383560056; Manufacturer: Wurth Elektronik; Case/Size Code: 4020; Saturation Current @ 10%: 6.9A; Saturation Current @ 30%: 14.7A; Self Resonant Frequency: 85MHz; Category: Power Inductors; Match Code: WE-MAIA; ComponentLink1Description: Website Link; ComponentLink1URL: https://www.we-online.com/redexpert/article/784383560056?ad; ComponentLink2Description: Datasheet Link; ComponentLink2URL: https://www.we-online.com/redexpert/spec/784383560056?ad; Mount: Surface Mount; Operating Temperature Max: 125°C; Operating Temperature Min: -40°C; Packaging: Tape and Reel; Length: 4.1mm; Width: 4.1mm; Height: 2.1mm; Automotive: Yes; DC Resistance Max: 8.4mOhm; Inductance: 0.56uH; Rated Current: 13.65A
footprint WE-MAIA_4020
simulation model 4020_784383560056_0.56u
pins: 1, 2

## 784383560056HT
designator L?, comment 0.56uH
WE-MAIA SMT Power Inductor, size 4020HT, 0.56uH, 12.15A, 8.6mOhm; Manufacturer Part Number: 784383560056HT; Manufacturer: Wurth Elektronik; Saturation Current @ 10%: 6.05A; Saturation Current @ 30%: 13A; Self Resonant Frequency: 72MHz; Category: Power Inductors; Match Code: WE-MAIA; ComponentLink1Description: Website Link; ComponentLink1URL: https://www.we-online.com/redexpert/article/784383560056HT?ad; ComponentLink2Description: Datasheet Link; ComponentLink2URL: https://www.we-online.com/redexpert/spec/784383560056HT?ad; Mount: Surface Mount; Operating Temperature Max: 150°C; Operating Temperature Min: -55°C; Packaging: Tape and Reel; Case/Size Code: 4020HT; Length: 4mm; Width: 4mm; Height: 2.4mm; Automotive: Yes; DC Resistance Max: 8.6mOhm; Inductance: 0.56uH; Rated Current: 12.15A
footprint WE-MAIA_4020HT
simulation model 4020HT_784383560056HT_0.56u
pins: 1, 2

## 784383560068
designator L?, comment 0.68uH
WE-MAIA SMT Power Inductor, size 4020, 0.68uH, 13.15A, 9mOhm; Manufacturer Part Number: 784383560068; Manufacturer: Wurth Elektronik; Case/Size Code: 4020; Saturation Current @ 10%: 5.8A; Saturation Current @ 30%: 12.7A; Self Resonant Frequency: 75MHz; Category: Power Inductors; Match Code: WE-MAIA; ComponentLink1Description: Website Link; ComponentLink1URL: https://www.we-online.com/redexpert/article/784383560068?ad; ComponentLink2Description: Datasheet Link; ComponentLink2URL: https://www.we-online.com/redexpert/spec/784383560068?ad; Mount: Surface Mount; Operating Temperature Max: 125°C; Operating Temperature Min: -40°C; Packaging: Tape and Reel; Length: 4.1mm; Width: 4.1mm; Height: 2.1mm; Automotive: Yes; DC Resistance Max: 9mOhm; Inductance: 0.68uH; Rated Current: 13.15A
footprint WE-MAIA_4020
simulation model 4020_784383560068_0.68u
pins: 1, 2

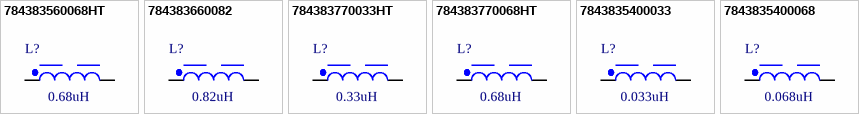
[diagram p4: symbols 784383560068HT to 7843835400068]

## 784383560068HT
designator L?, comment 0.68uH
WE-MAIA SMT Power Inductor, size 4020HT, 0.68uH, 11.7A, 9.2mOhm; Manufacturer Part Number: 784383560068HT; Manufacturer: Wurth Elektronik; Saturation Current @ 10%: 5.45A; Self Resonant Frequency: 67MHz; Category: Power Inductors; Match Code: WE-MAIA; ComponentLink1Description: Website Link; ComponentLink1URL: https://www.we-online.com/redexpert/article/784383560068HT?ad; ComponentLink2Description: Datasheet Link; ComponentLink2URL: https://www.we-online.com/redexpert/spec/784383560068HT?ad; Mount: Surface Mount; Operating Temperature Max: 150°C; Operating Temperature Min: -55°C; Packaging: Tape and Reel; Case/Size Code: 4020HT; Length: 4mm; Width: 4mm; Height: 2.4mm; Automotive: Yes; DC Resistance Max: 9.2mOhm; Inductance: 0.68uH; Rated Current: 11.7A; Saturation Current @ 30%: 11.7A
footprint WE-MAIA_4020HT
simulation model 4020HT_784383560068HT_0.68u
pins: 1, 2

## 784383660082
designator L?, comment 0.82uH
WE-MAIA SMT Power Inductor, size 5020, 0.82uH, 13.25A, 9.6mOhm; Manufacturer Part Number: 784383660082; Manufacturer: Wurth Elektronik; Case/Size Code: 5020; Saturation Current @ 10%: 7.1A; Saturation Current @ 30%: 15.3A; Self Resonant Frequency: 53.5MHz; Category: Power Inductors; Match Code: WE-MAIA; ComponentLink1Description: Website Link; ComponentLink1URL: https://www.we-online.com/redexpert/article/784383660082?ad; ComponentLink2Description: Datasheet Link; ComponentLink2URL: https://www.we-online.com/redexpert/spec/784383660082?ad; Mount: Surface Mount; Operating Temperature Max: 125°C; Operating Temperature Min: -40°C; Packaging: Tape and Reel; Length: 5.4mm; Width: 5.4mm; Height: 2.1mm; Automotive: Yes; DC Resistance Max: 9.6mOhm; Inductance: 0.82uH; Rated Current: 13.25A
footprint WE-MAIA_5020
simulation model 5020_784383660082_0.82u
pins: 1, 2

## 784383770033HT
designator L?, comment 0.33uH
WE-MAIA SMT Power Inductor, size 6030HT, 0.33uH, 21.6A, 3mOhm; Manufacturer Part Number: 784383770033HT; Manufacturer: Wurth Elektronik; Saturation Current @ 10%: 14.1A; Saturation Current @ 30%: 27.5A; Self Resonant Frequency: 96MHz; Category: Power Inductors; Match Code: WE-MAIA; ComponentLink1Description: Website Link; ComponentLink1URL: https://www.we-online.com/redexpert/article/784383770033HT?ad; ComponentLink2Description: Datasheet Link; ComponentLink2URL: https://www.we-online.com/redexpert/spec/784383770033HT?ad; Mount: Surface Mount; Operating Temperature Max: 150°C; Operating Temperature Min: -55°C; Packaging: Tape and Reel; Case/Size Code: 6030HT; Length: 6.6mm; Width: 6.6mm; Height: 3.1mm; Automotive: Yes; DC Resistance Max: 3mOhm; Inductance: 0.33uH; Rated Current: 21.6A
footprint WE-MAIA_6030HT
simulation model 6030HT_784383770033HT_0.33u
pins: 1, 2

## 784383770068HT
designator L?, comment 0.68uH
WE-MAIA SMT Power Inductor, size 6030HT, 0.68uH, 16.7A, 5.6mOhm; Manufacturer Part Number: 784383770068HT; Manufacturer: Wurth Elektronik; Saturation Current @ 10%: 10.6A; Saturation Current @ 30%: 21.5A; Self Resonant Frequency: 55MHz; Category: Power Inductors; Match Code: WE-MAIA; ComponentLink1Description: Website Link; ComponentLink1URL: https://www.we-online.com/redexpert/article/784383770068HT?ad; ComponentLink2Description: Datasheet Link; ComponentLink2URL: https://www.we-online.com/redexpert/spec/784383770068HT?ad; Mount: Surface Mount; Operating Temperature Max: 150°C; Operating Temperature Min: -55°C; Packaging: Tape and Reel; Case/Size Code: 6030HT; Length: 6.6mm; Width: 6.6mm; Height: 3.1mm; Automotive: Yes; DC Resistance Max: 5.6mOhm; Inductance: 0.68uH; Rated Current: 16.7A
footprint WE-MAIA_6030HT
simulation model 6030HT_784383770068HT_0.68u
pins: 1, 2